# Altium footprint library MountingHole.PcbLib: 167 footprints (part 1 of 11)
Each footprint in its own frame and in the unit in brackets; x right, y up, seen from the top. Pads: shape width x height; smd on the part's side, far side on the other; paste and mask are expansions set on the pad; w line width, h text height; cw(c..) or ccw(c..) is an arc to the next point about the centre after c.
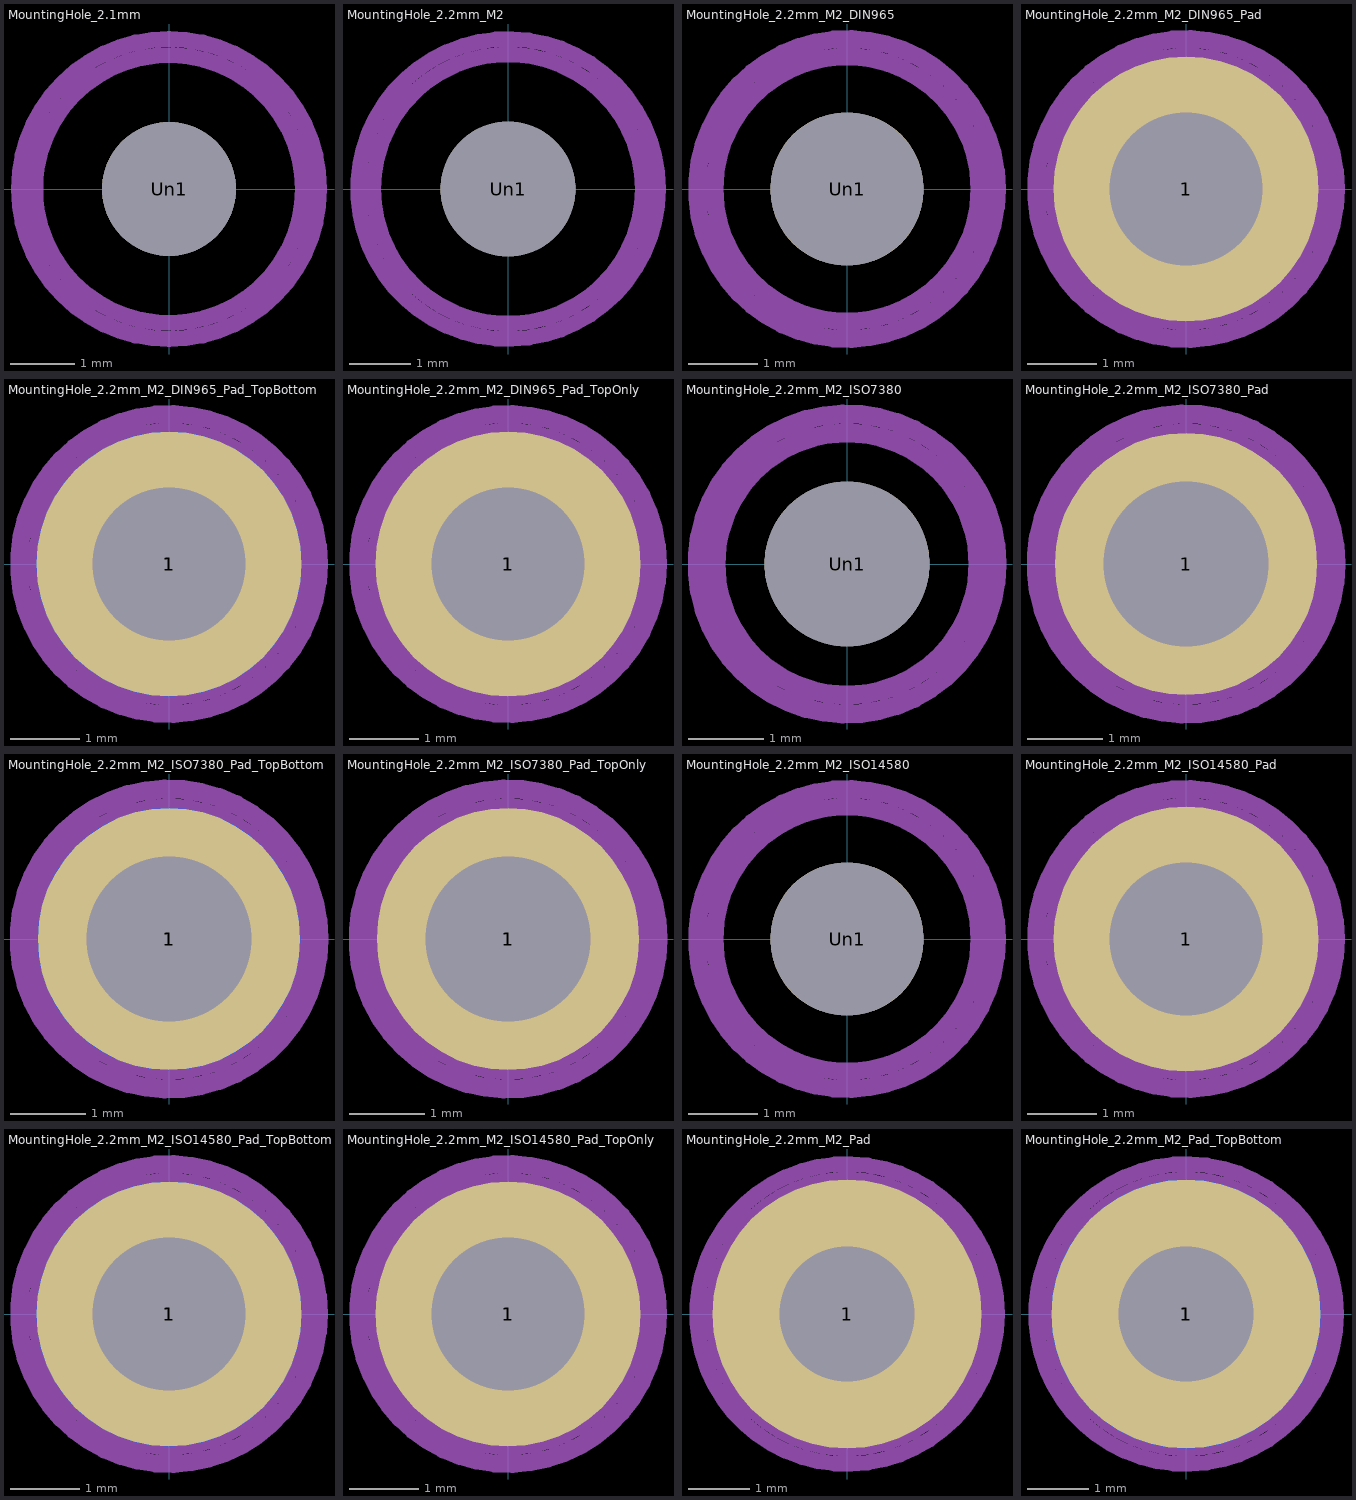
[diagram p0: the footprints below, top view; thin cyan lines are the x and y axes]

## MountingHole_2.1mm [mm]
pads (1):
  round 2.1 hole 2.1: Un1(0,0)
Top Component Center:
  lines w0.127: -0.127,0 0.127,0 ; 0,-0.127 0,0.127
Top Assembly:
  text "'.Designator'" at -4.047,-0.84 h1
Top Courtyard:
  circle w0.254: c0,0 r2.35
Top Designator:
  text ".Designator" at -7.768,-0.508 h1.52
Cmts.User:
  circle w0.254: c0,0 r2.1

## MountingHole_2.2mm_M2 [mm]
pads (1):
  round 2.2 hole 2.2: Un1(0,0)
Top Assembly:
  text "'.Designator'" at -4.047,-0.84 h1
Top Courtyard:
  circle w0.254: c0,0 r2.45
Top Designator:
  text ".Designator" at -7.768,-0.508 h1.52
Cmts.User:
  circle w0.254: c0,0 r2.2

## MountingHole_2.2mm_M2_DIN965 [mm]
pads (1):
  round 2.2 hole 2.2: Un1(0,0)
Top Assembly:
  text "'.Designator'" at -3.842,-0.796 h0.95
Top Courtyard:
  circle w0.254: c0,0 r2.15
Top Designator:
  text ".Designator" at -7.758,-0.508 h1.52
Cmts.User:
  circle w0.254: c0,0 r1.9

## MountingHole_2.2mm_M2_DIN965_Pad [mm]
pads (1):
  round 3.8 hole 2.2: 1(0,0)
Top Assembly:
  text "'.Designator'" at -3.842,-0.796 h0.95
Top Courtyard:
  circle w0.254: c0,0 r2.15
Top Designator:
  text ".Designator" at -7.758,-0.508 h1.52
Cmts.User:
  circle w0.254: c0,0 r1.9

## MountingHole_2.2mm_M2_DIN965_Pad_TopBottom [mm]
pads (3):
  round 2.6 hole 2.2: 1(0,0)
  round 3.8 smd: 1(0,0)
  round 3.8 smd far side: 1(0,0)
Top Assembly:
  text "'.Designator'" at -3.842,-0.796 h0.95
Top Courtyard:
  circle w0.254: c0,0 r2.15
Top Designator:
  text ".Designator" at -7.758,-0.508 h1.52
Cmts.User:
  circle w0.254: c0,0 r1.9

## MountingHole_2.2mm_M2_DIN965_Pad_TopOnly [mm]
pads (2):
  round 2.6 hole 2.2: 1(0,0)
  round 3.8 smd: 1(0,0)
Top Assembly:
  text "'.Designator'" at -3.842,-0.796 h0.95
Top Courtyard:
  circle w0.254: c0,0 r2.15
Top Designator:
  text ".Designator" at -7.758,-0.508 h1.52
Cmts.User:
  circle w0.254: c0,0 r1.9

## MountingHole_2.2mm_M2_ISO7380 [mm]
pads (1):
  round 2.2 hole 2.2: Un1(0,0)
Top Assembly:
  text "'.Designator'" at -3.559,-0.737 h0.88
Top Courtyard:
  circle w0.254: c0,0 r2
Top Designator:
  text ".Designator" at -7.748,-0.508 h1.52
Cmts.User:
  circle w0.254: c0,0 r1.75

## MountingHole_2.2mm_M2_ISO7380_Pad [mm]
pads (1):
  round 3.5 hole 2.2: 1(0,0)
Top Assembly:
  text "'.Designator'" at -3.559,-0.737 h0.88
Top Courtyard:
  circle w0.254: c0,0 r2
Top Designator:
  text ".Designator" at -7.748,-0.508 h1.52
Cmts.User:
  circle w0.254: c0,0 r1.75

## MountingHole_2.2mm_M2_ISO7380_Pad_TopBottom [mm]
pads (3):
  round 2.6 hole 2.2: 1(0,0)
  round 3.5 smd: 1(0,0)
  round 3.5 smd far side: 1(0,0)
Top Assembly:
  text "'.Designator'" at -3.559,-0.737 h0.88
Top Courtyard:
  circle w0.254: c0,0 r2
Top Designator:
  text ".Designator" at -7.748,-0.508 h1.52
Cmts.User:
  circle w0.254: c0,0 r1.75

## MountingHole_2.2mm_M2_ISO7380_Pad_TopOnly [mm]
pads (2):
  round 2.6 hole 2.2: 1(0,0)
  round 3.5 smd: 1(0,0)
Top Assembly:
  text "'.Designator'" at -3.559,-0.737 h0.88
Top Courtyard:
  circle w0.254: c0,0 r2
Top Designator:
  text ".Designator" at -7.748,-0.508 h1.52
Cmts.User:
  circle w0.254: c0,0 r1.75

## MountingHole_2.2mm_M2_ISO14580 [mm]
pads (1):
  round 2.2 hole 2.2: Un1(0,0)
Top Assembly:
  text "'.Designator'" at -3.842,-0.796 h0.95
Top Courtyard:
  circle w0.254: c0,0 r2.15
Top Designator:
  text ".Designator" at -7.758,-0.508 h1.52
Cmts.User:
  circle w0.254: c0,0 r1.9

## MountingHole_2.2mm_M2_ISO14580_Pad [mm]
pads (1):
  round 3.8 hole 2.2: 1(0,0)
Top Assembly:
  text "'.Designator'" at -3.842,-0.796 h0.95
Top Courtyard:
  circle w0.254: c0,0 r2.15
Top Designator:
  text ".Designator" at -7.758,-0.508 h1.52
Cmts.User:
  circle w0.254: c0,0 r1.9

## MountingHole_2.2mm_M2_ISO14580_Pad_TopBottom [mm]
pads (3):
  round 2.6 hole 2.2: 1(0,0)
  round 3.8 smd: 1(0,0)
  round 3.8 smd far side: 1(0,0)
Top Assembly:
  text "'.Designator'" at -3.842,-0.796 h0.95
Top Courtyard:
  circle w0.254: c0,0 r2.15
Top Designator:
  text ".Designator" at -7.758,-0.508 h1.52
Cmts.User:
  circle w0.254: c0,0 r1.9

## MountingHole_2.2mm_M2_ISO14580_Pad_TopOnly [mm]
pads (2):
  round 2.6 hole 2.2: 1(0,0)
  round 3.8 smd: 1(0,0)
Top Assembly:
  text "'.Designator'" at -3.842,-0.796 h0.95
Top Courtyard:
  circle w0.254: c0,0 r2.15
Top Designator:
  text ".Designator" at -7.758,-0.508 h1.52
Cmts.User:
  circle w0.254: c0,0 r1.9

## MountingHole_2.2mm_M2_Pad [mm]
pads (1):
  round 4.4 hole 2.2: 1(0,0)
Top Assembly:
  text "'.Designator'" at -4.047,-0.84 h1
Top Courtyard:
  circle w0.254: c0,0 r2.45
Top Designator:
  text ".Designator" at -7.768,-0.508 h1.52
Cmts.User:
  circle w0.254: c0,0 r2.2

## MountingHole_2.2mm_M2_Pad_TopBottom [mm]
pads (3):
  round 2.6 hole 2.2: 1(0,0)
  round 4.4 smd: 1(0,0)
  round 4.4 smd far side: 1(0,0)
Top Assembly:
  text "'.Designator'" at -4.047,-0.84 h1
Top Courtyard:
  circle w0.254: c0,0 r2.45
Top Designator:
  text ".Designator" at -7.768,-0.508 h1.52
Cmts.User:
  circle w0.254: c0,0 r2.2